# Altium schematic symbol library Cap_TDK_C1608X5R1A106M080AC_220nF.SchLib: 1 symbol
Pins are listed as number, name and electrical type; pins without a type are passive.

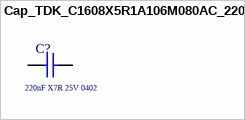
[diagram p0: symbol Cap_TDK_C1608X5R1A106M080AC_220nF]

## Cap_TDK_C1608X5R1A106M080AC_220nF
designator C?  Capacitance: 220nF X7R 25V 0402  (hidden comment: Cap_TDK_C1608X5R1A106M080AC_220nF)
CAP CER 220nF 50V X7R 0402; Supplier 1: Mouser; Supplier Part Number 1: 810-C1005X7R1E224KBE
footprint Cap_TDK_C1608X5R1A106M080AC_220nF
pins: 1, 2